# Altium schematic symbol library USBLC6-4SC6.Schlib: 1 symbol
Pins are listed as number, name and electrical type; pins without a type are passive.

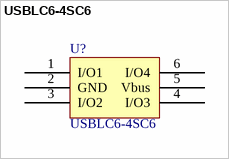
[diagram p0: symbol USBLC6-4SC6]

## USBLC6-4SC6
designator U?
footprint SOT23-6L (Footprint not found)
pins: 1 I/O1, 2 GND, 3 I/O2, 4 I/O3, 5 Vbus, 6 I/O4